# Altium schematic symbol library 原理图库.SchLib: 10 symbols
Pins are listed as number, name and electrical type; pins without a type are passive.

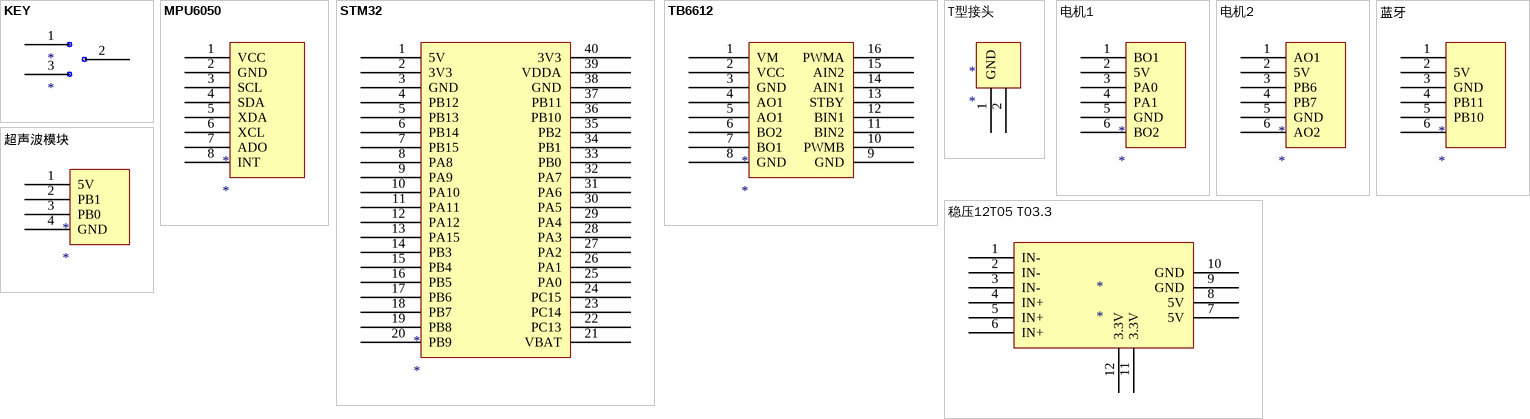
[diagram p0: symbols KEY to 超声波模块]

## KEY
designator *
footprint SS12d11拨动电源开关
pins: 1, 2, 3

## MPU6050
designator *
footprint MPU6050
pins: 1 VCC, 2 GND, 3 SCL, 4 SDA, 5 XDA, 6 XCL, 7 ADO, 8 INT

## STM32
designator *
footprint stm32
pins: 1 5V, 2 3V3, 3 GND, 4 PB12, 5 PB13, 6 PB14, 7 PB15, 8 PA8, 9 PA9, 10 PA10, 11 PA11, 12 PA12, 13 PA15, 14 PB3, 15 PB4, 16 PB5, 17 PB6, 18 PB7, 19 PB8, 20 PB9, 21 VBAT, 22 PC13, 23 PC14, 24 PC15, 25 PA0, 26 PA1, 27 PA2, 28 PA3, 29 PA4, 30 PA5, 31 PA6, 32 PA7, 33 PB0, 34 PB1, 35 PB2, 36 PB10, 37 PB11, 38 GND, 39 VDDA, 40 3V3

## TB6612
designator *
footprint TB6612
pins: 1 VM, 2 VCC, 3 GND, 4 AO1, 5 AO1, 6 BO2, 7 BO1, 8 GND, 9 GND, 10 PWMB, 11 BIN2, 12 BIN1, 13 STBY, 14 AIN1, 15 AIN2, 16 PWMA

## T型接头
designator *
footprint T HEAD
pins: 1 GND, 2

## 电机1
designator *
footprint HDR1X6 - XH弯 (Connector; Header; 4 Position)
pins: 1 BO1, 2 5V, 3 PA0, 4 PA1, 5 GND, 6 BO2

## 电机2
designator *
footprint HDR1X6 - XH弯 (Connector; Header; 4 Position)
pins: 1 AO1, 2 5V, 3 PB6, 4 PB7, 5 GND, 6 AO2

## 稳压12T05 T03.3
designator *
footprint 稳压12T05 T03.3
pins: 1 IN-, 2 IN-, 3 IN-, 4 IN+, 5 IN+, 6 IN+, 7 5V, 8 5V, 9 GND, 10 GND, 11 3.3V, 12 3.3V

## 蓝牙
designator *
footprint 1*6弯排母 (Connector; Header; 4 Position)
pins: 1, 2 5V, 3 GND, 4 PB11, 5 PB10, 6

## 超声波模块
designator *
footprint 超声波检测模块 (Connector; Header; 4 Position)
pins: 1 5V, 2 PB1, 3 PB0, 4 GND